# Altium integrated library Resistors.IntLib: 4954 symbols (part 13 of 32)
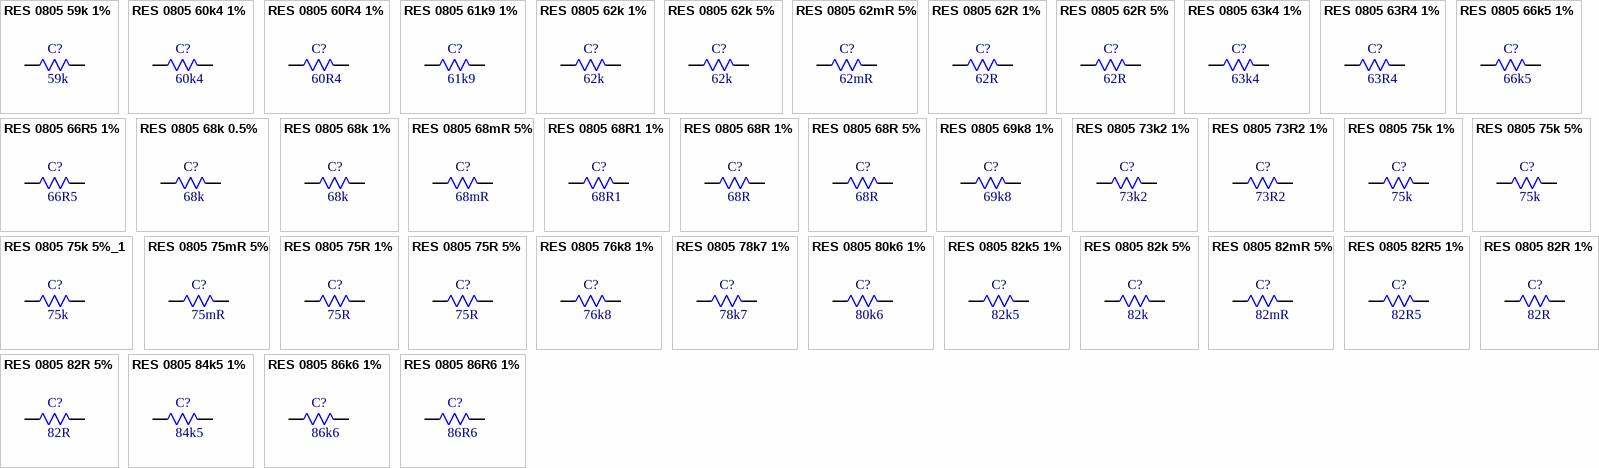
[diagram p135: symbols RES 0805 59k 1% to RES 0805 86R6 1%]

## RES 0805 61k9 1%
designator C?, comment 61k9
61.9kR 1% 125mW 0805 Thick Film Resistor; Manufacturer: FOJAN; Manufacturer Part Number: FRC0805F6192TS; Voltage Rating: 150V; Supplier: LCSC; Supplier Part Number: C2999511; Resistance: 61k9; Tolerance: 1%; Power: 125mW
footprint RES SMD 0805
pins: 1, 2

## RES 0805 62k 1%
designator C?, comment 62k
62kR 1% 125mW 0805 Thick Film Resistor; Manufacturer: FOJAN; Manufacturer Part Number: FRC0805F6202TS; Voltage Rating: 150V; Supplier: LCSC; Supplier Part Number: C2933481; Resistance: 62k; Tolerance: 1%; Power: 125mW
footprint RES SMD 0805
pins: 1, 2

## RES 0805 62k 5%
designator C?, comment 62k
62kR 5% 125mW 0805 Thick Film Resistor; Manufacturer: FOJAN; Manufacturer Part Number: FRC0805J623TS; Voltage Rating: 150V; Supplier: LCSC; Supplier Part Number: C2930305; Resistance: 62k; Tolerance: 5%; Power: 125mW
footprint RES SMD 0805
pins: 1, 2

## RES 0805 62mR 5%
designator C?, comment 62mR
62mR 5% 125mW 0805 Thick Film Resistor; Manufacturer: FOJAN; Manufacturer Part Number: FRL0805JR062TS; Voltage Rating: 300V; Supplier: LCSC; Supplier Part Number: C3000685; Resistance: 62mR; Tolerance: 5%; Power: 125mW
footprint RES SMD 0805
pins: 1, 2

## RES 0805 62R 1%
designator C?, comment 62R
125mW 62R Thick Film Resistor 1% 100ppm/â„ƒ 0805 Chip Resistor - Surface Mount RoHS; Manufacturer: FOJAN; Manufacturer Part Number: FRQ0805F62R0TS; Supplier: LCSC; Supplier Part Number: C7468576; Resistance: 62R; Tolerance: 1%; Power: 125mW
footprint RES SMD 0805
pins: 1, 2

## RES 0805 62R 5%
designator C?, comment 62R
62R 5% 125mW 0805 Thick Film Resistor; Manufacturer: FOJAN; Manufacturer Part Number: FRC0805J620 TS; Voltage Rating: 150V; Supplier: LCSC; Supplier Part Number: C2933559; Resistance: 62R; Tolerance: 5%; Power: 125mW
footprint RES SMD 0805
pins: 1, 2

## RES 0805 63k4 1%
designator C?, comment 63k4
63.4kR 1% 125mW 0805 Thick Film Resistor; Manufacturer: FOJAN; Manufacturer Part Number: FRC0805F6342TS; Voltage Rating: 150V; Supplier: LCSC; Supplier Part Number: C2933483; Resistance: 63k4; Tolerance: 1%; Power: 125mW
footprint RES SMD 0805
pins: 1, 2

## RES 0805 63R4 1%
designator C?, comment 63R4
63.4R 1% 125mW 0805 Thick Film Resistor; Manufacturer: FOJAN; Manufacturer Part Number: FRC0805F63R4TS; Voltage Rating: 150V; Supplier: LCSC; Supplier Part Number: C5159721; Resistance: 63R4; Tolerance: 1%; Power: 125mW
footprint RES SMD 0805
pins: 1, 2

## RES 0805 66k5 1%
designator C?, comment 66k5
66.5kR 1% 125mW 0805 Thick Film Resistor; Manufacturer: FOJAN; Manufacturer Part Number: FRC0805F6652TS; Voltage Rating: 150V; Supplier: LCSC; Supplier Part Number: C3013227; Resistance: 66k5; Tolerance: 1%; Power: 125mW
footprint RES SMD 0805
pins: 1, 2

## RES 0805 66R5 1%
designator C?, comment 66R5
66.5R 1% 125mW 0805 Thick Film Resistor; Manufacturer: FOJAN; Manufacturer Part Number: FRC0805F66R5TS; Voltage Rating: 150V; Supplier: LCSC; Supplier Part Number: C2933486; Resistance: 66R5; Tolerance: 1%; Power: 125mW
footprint RES SMD 0805
pins: 1, 2

## RES 0805 68k 0.5%
designator C?, comment 68k
68kR 0.5% 125mW 0805 Thick Film Resistor; Manufacturer: FOJAN; Manufacturer Part Number: FRH0805D6802TSV; Voltage Rating: 150V; Supplier: LCSC; Supplier Part Number: C2934250; Resistance: 68k; Tolerance: 0.5%; Power: 125mW
footprint RES SMD 0805
pins: 1, 2

## RES 0805 68k 1%
designator C?, comment 68k
68kR 1% 125mW 0805 Thick Film Resistor; Manufacturer: FOJAN; Manufacturer Part Number: FRC0805F6802TS; Voltage Rating: 150V; Supplier: LCSC; Supplier Part Number: C2907283; Resistance: 68k; Tolerance: 1%; Power: 125mW
footprint RES SMD 0805
pins: 1, 2

## RES 0805 68mR 5%
designator C?, comment 68mR
68mR 5% 125mW 0805 Thick Film Resistor; Manufacturer: FOJAN; Manufacturer Part Number: FRL0805JR068TS; Voltage Rating: 300V; Supplier: LCSC; Supplier Part Number: C3000696; Resistance: 68mR; Tolerance: 5%; Power: 125mW
footprint RES SMD 0805
pins: 1, 2

## RES 0805 68R1 1%
designator C?, comment 68R1
68.1R 1% 125mW 0805 Thick Film Resistor; Manufacturer: FOJAN; Manufacturer Part Number: FRC0805F68R1TS; Voltage Rating: 150V; Supplier: LCSC; Supplier Part Number: C2933488; Resistance: 68R1; Tolerance: 1%; Power: 125mW
footprint RES SMD 0805
pins: 1, 2

## RES 0805 68R 1%
designator C?, comment 68R
68R 1% 125mW 0805 Thick Film Resistor; Manufacturer: FOJAN; Manufacturer Part Number: FRC0805F68R0TS; Voltage Rating: 150V; Supplier: LCSC; Supplier Part Number: C2933487; Resistance: 68R; Tolerance: 1%; Power: 125mW
footprint RES SMD 0805
pins: 1, 2

## RES 0805 68R 5%
designator C?, comment 68R
125mW 68R 150V Thick Film Resistor 5% 0805 Chip Resistor - Surface Mount RoHS; Manufacturer: FOJAN; Manufacturer Part Number: FRD0805J680 TS; Supplier: LCSC; Supplier Part Number: C2934182; Resistance: 68R; Tolerance: 5%; Voltage Rating: 150V; Power: 125mW
footprint RES SMD 0805
pins: 1, 2

## RES 0805 69k8 1%
designator C?, comment 69k8
125mW 69.8kR 150V Thick Film Resistor 1% 100ppm/â„ƒ 0805 Chip Resistor - Surface Mount RoHS; Manufacturer: FOJAN; Manufacturer Part Number: FRC0805F6982TS; Supplier: LCSC; Supplier Part Number: C7467441; Resistance: 69k8; Tolerance: 1%; Voltage Rating: 150V; Power: 125mW
footprint RES SMD 0805
pins: 1, 2

## RES 0805 73k2 1%
designator C?, comment 73k2
73.2kR 1% 125mW 0805 Thick Film Resistor; Manufacturer: FOJAN; Manufacturer Part Number: FRC0805F7322TS; Voltage Rating: 150V; Supplier: LCSC; Supplier Part Number: C5713314; Resistance: 73k2; Tolerance: 1%; Power: 125mW
footprint RES SMD 0805
pins: 1, 2

## RES 0805 73R2 1%
designator C?, comment 73R2
73.2R 1% 125mW 0805 Thick Film Resistor; Manufacturer: FOJAN; Manufacturer Part Number: FRC0805F73R2TS; Voltage Rating: 150V; Supplier: LCSC; Supplier Part Number: C3000738; Resistance: 73R2; Tolerance: 1%; Power: 125mW
footprint RES SMD 0805
pins: 1, 2

## RES 0805 75k 1%
designator C?, comment 75k
75kR 1% 125mW 0805 Thick Film Resistor; Manufacturer: FOJAN; Manufacturer Part Number: FRC0805F7502TS; Voltage Rating: 150V; Supplier: LCSC; Supplier Part Number: C2933496; Resistance: 75k; Tolerance: 1%; Power: 125mW
footprint RES SMD 0805
pins: 1, 2

## RES 0805 75k 5%
designator C?, comment 75k
75kR 5% 125mW 0805 Thick Film Resistor; Manufacturer: FOJAN; Manufacturer Part Number: FRC0805J753TS; Voltage Rating: 150V; Supplier: LCSC; Supplier Part Number: C2930313; Resistance: 75k; Tolerance: 5%; Power: 125mW
footprint RES SMD 0805
pins: 1, 2

## RES 0805 75k 5%_1
designator C?, comment 75k
125mW 75kR 150V Thick Film Resistor 100ppm/â„ƒ 5% 0805 Chip Resistor - Surface Mount RoHS; Manufacturer: FOJAN; Manufacturer Part Number: FRQ0805J753 TS; Supplier: LCSC; Supplier Part Number: C49196699; Resistance: 75k; Tolerance: 5%; Voltage Rating: 150V; Power: 125mW
footprint RES SMD 0805
pins: 1, 2

## RES 0805 75mR 5%
designator C?, comment 75mR
75mR 5% 125mW 0805 Thick Film Resistor; Manufacturer: FOJAN; Manufacturer Part Number: FRL0805JR075TS; Voltage Rating: 300V; Supplier: LCSC; Supplier Part Number: C3000563; Resistance: 75mR; Tolerance: 5%; Power: 125mW
footprint RES SMD 0805
pins: 1, 2

## RES 0805 75R 1%
designator C?, comment 75R
75R 1% 125mW 0805 Thick Film Resistor; Manufacturer: FOJAN; Manufacturer Part Number: FRC0805F75R0TS; Voltage Rating: 150V; Supplier: LCSC; Supplier Part Number: C2933498; Resistance: 75R; Tolerance: 1%; Power: 125mW
footprint RES SMD 0805
pins: 1, 2

## RES 0805 75R 5%
designator C?, comment 75R
75R 5% 125mW 0805 Thick Film Resistor; Manufacturer: FOJAN; Manufacturer Part Number: FRC0805J750 TS; Voltage Rating: 150V; Supplier: LCSC; Supplier Part Number: C2974040; Resistance: 75R; Tolerance: 5%; Power: 125mW
footprint RES SMD 0805
pins: 1, 2

## RES 0805 76k8 1%
designator C?, comment 76k8
76.8kR 1% 125mW 0805 Thick Film Resistor; Manufacturer: FOJAN; Manufacturer Part Number: FRC0805F7682TS; Voltage Rating: 150V; Supplier: LCSC; Supplier Part Number: C3000581; Resistance: 76k8; Tolerance: 1%; Power: 125mW
footprint RES SMD 0805
pins: 1, 2

## RES 0805 78k7 1%
designator C?, comment 78k7
78.7kR 1% 125mW 0805 Thick Film Resistor; Manufacturer: FOJAN; Manufacturer Part Number: FRC0805F7872TS; Voltage Rating: 150V; Supplier: LCSC; Supplier Part Number: C2933499; Resistance: 78k7; Tolerance: 1%; Power: 125mW
footprint RES SMD 0805
pins: 1, 2

## RES 0805 80k6 1%
designator C?, comment 80k6
80.6kR 1% 125mW 0805 Thick Film Resistor; Manufacturer: FOJAN; Manufacturer Part Number: FRC0805F8062TS; Voltage Rating: 150V; Supplier: LCSC; Supplier Part Number: C2960781; Resistance: 80k6; Tolerance: 1%; Power: 125mW
footprint RES SMD 0805
pins: 1, 2

## RES 0805 82k5 1%
designator C?, comment 82k5
82.5kR 1% 125mW 0805 Thick Film Resistor; Manufacturer: FOJAN; Manufacturer Part Number: FRC0805F8252TS; Voltage Rating: 150V; Supplier: LCSC; Supplier Part Number: C3013228; Resistance: 82k5; Tolerance: 1%; Power: 125mW
footprint RES SMD 0805
pins: 1, 2

## RES 0805 82k 5%
designator C?, comment 82k
82kR 5% 125mW 0805 Thick Film Resistor; Manufacturer: FOJAN; Manufacturer Part Number: FRC0805J823TS; Voltage Rating: 150V; Supplier: LCSC; Supplier Part Number: C2930316; Resistance: 82k; Tolerance: 5%; Power: 125mW
footprint RES SMD 0805
pins: 1, 2

## RES 0805 82mR 5%
designator C?, comment 82mR
82mR 5% 125mW 0805 Thick Film Resistor; Manufacturer: FOJAN; Manufacturer Part Number: FRL0805JR082TS; Voltage Rating: 300V; Supplier: LCSC; Supplier Part Number: C2960704; Resistance: 82mR; Tolerance: 5%; Power: 125mW
footprint RES SMD 0805
pins: 1, 2

## RES 0805 82R5 1%
designator C?, comment 82R5
82.5R 1% 125mW 0805 Thick Film Resistor; Manufacturer: FOJAN; Manufacturer Part Number: FRC0805F82R5TS; Voltage Rating: 150V; Supplier: LCSC; Supplier Part Number: C2999516; Resistance: 82R5; Tolerance: 1%; Power: 125mW
footprint RES SMD 0805
pins: 1, 2

## RES 0805 82R 1%
designator C?, comment 82R
82R 1% 125mW 0805 Thick Film Resistor; Manufacturer: FOJAN; Manufacturer Part Number: FRC0805F82R0TS; Voltage Rating: 150V; Supplier: LCSC; Supplier Part Number: C2907287; Resistance: 82R; Tolerance: 1%; Power: 125mW
footprint RES SMD 0805
pins: 1, 2

## RES 0805 82R 5%
designator C?, comment 82R
82R 5% 125mW 0805 Thick Film Resistor; Manufacturer: FOJAN; Manufacturer Part Number: FRC0805J820 TS; Voltage Rating: 150V; Supplier: LCSC; Supplier Part Number: C2907344; Resistance: 82R; Tolerance: 5%; Power: 125mW
footprint RES SMD 0805
pins: 1, 2

## RES 0805 84k5 1%
designator C?, comment 84k5
84.5kR 1% 125mW 0805 Thick Film Resistor; Manufacturer: FOJAN; Manufacturer Part Number: FRC0805F8452TS; Voltage Rating: 150V; Supplier: LCSC; Supplier Part Number: C2960703; Resistance: 84k5; Tolerance: 1%; Power: 125mW
footprint RES SMD 0805
pins: 1, 2

## RES 0805 86k6 1%
designator C?, comment 86k6
86.6kR 1% 125mW 0805 Thick Film Resistor; Manufacturer: FOJAN; Manufacturer Part Number: FRC0805F8662TS; Voltage Rating: 150V; Supplier: LCSC; Supplier Part Number: C2933507; Resistance: 86k6; Tolerance: 1%; Power: 125mW
footprint RES SMD 0805
pins: 1, 2

## RES 0805 86R6 1%
designator C?, comment 86R6
86.6R 1% 125mW 0805 Thick Film Resistor; Manufacturer: FOJAN; Manufacturer Part Number: FRC0805F86R6TS; Voltage Rating: 150V; Supplier: LCSC; Supplier Part Number: C5121547; Resistance: 86R6; Tolerance: 1%; Power: 125mW
footprint RES SMD 0805
pins: 1, 2

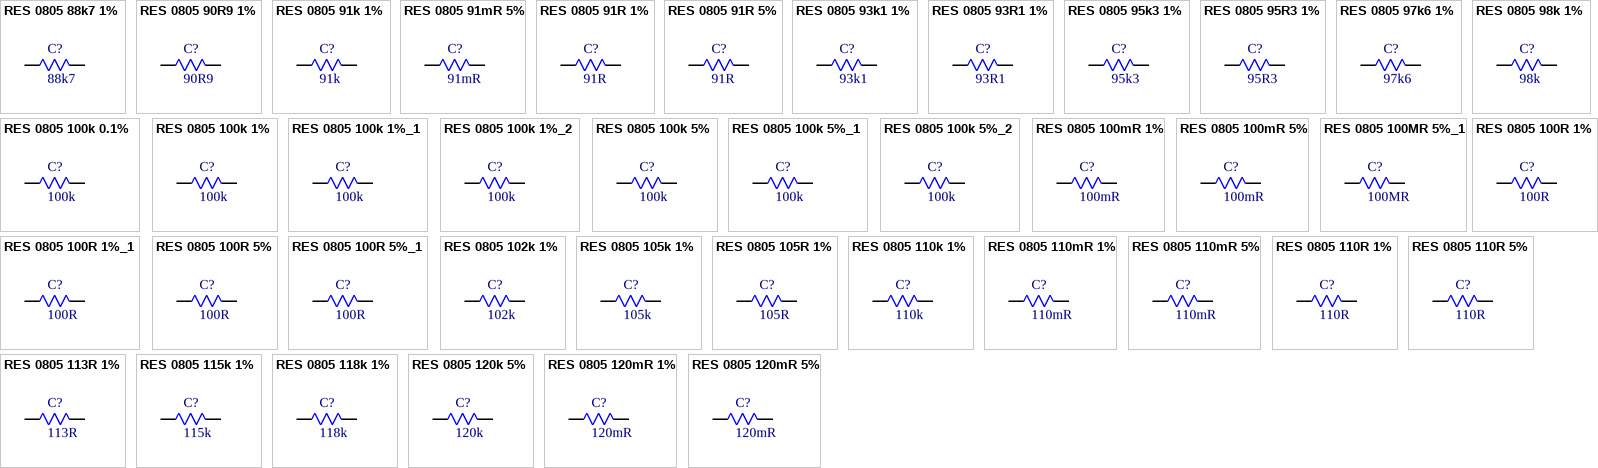
[diagram p49: symbols RES 0805 88k7 1% to RES 0805 120mR 5%]

## RES 0805 88k7 1%
designator C?, comment 88k7
88.7kR 1% 125mW 0805 Thick Film Resistor; Manufacturer: FOJAN; Manufacturer Part Number: FRC0805F8872TS; Voltage Rating: 150V; Supplier: LCSC; Supplier Part Number: C5121549; Resistance: 88k7; Tolerance: 1%; Power: 125mW
footprint RES SMD 0805
pins: 1, 2

## RES 0805 90R9 1%
designator C?, comment 90R9
90.9R 1% 125mW 0805 Thick Film Resistor; Manufacturer: FOJAN; Manufacturer Part Number: FRC0805F90R9TS; Voltage Rating: 150V; Supplier: LCSC; Supplier Part Number: C3000584; Resistance: 90R9; Tolerance: 1%; Power: 125mW
footprint RES SMD 0805
pins: 1, 2

## RES 0805 91k 1%
designator C?, comment 91k
91kR 1% 125mW 0805 Thick Film Resistor; Manufacturer: FOJAN; Manufacturer Part Number: FRC0805F9102TS; Voltage Rating: 150V; Supplier: LCSC; Supplier Part Number: C2933509; Resistance: 91k; Tolerance: 1%; Power: 125mW
footprint RES SMD 0805
pins: 1, 2

## RES 0805 91mR 5%
designator C?, comment 91mR
91mR 5% 125mW 0805 Thick Film Resistor; Manufacturer: FOJAN; Manufacturer Part Number: FRL0805JR091TS; Voltage Rating: 300V; Supplier: LCSC; Supplier Part Number: C3013356; Resistance: 91mR; Tolerance: 5%; Power: 125mW
footprint RES SMD 0805
pins: 1, 2

## RES 0805 91R 1%
designator C?, comment 91R
91R 1% 125mW 0805 Thick Film Resistor; Manufacturer: FOJAN; Manufacturer Part Number: FRC0805F91R0TS; Voltage Rating: 150V; Supplier: LCSC; Supplier Part Number: C2933510; Resistance: 91R; Tolerance: 1%; Power: 125mW
footprint RES SMD 0805
pins: 1, 2

## RES 0805 91R 5%
designator C?, comment 91R
91R 5% 125mW 0805 Thick Film Resistor; Manufacturer: FOJAN; Manufacturer Part Number: FRC0805J910 TS; Voltage Rating: 150V; Supplier: LCSC; Supplier Part Number: C2933573; Resistance: 91R; Tolerance: 5%; Power: 125mW
footprint RES SMD 0805
pins: 1, 2

## RES 0805 93k1 1%
designator C?, comment 93k1
93.1kR 1% 125mW 0805 Thick Film Resistor; Manufacturer: FOJAN; Manufacturer Part Number: FRC0805F9312TS; Voltage Rating: 150V; Supplier: LCSC; Supplier Part Number: C2933511; Resistance: 93k1; Tolerance: 1%; Power: 125mW
footprint RES SMD 0805
pins: 1, 2

## RES 0805 93R1 1%
designator C?, comment 93R1
125mW 93.1R 150V Thick Film Resistor 100ppm/â„ƒ 1% 0805 Chip Resistor - Surface Mount RoHS; Manufacturer: FOJAN; Manufacturer Part Number: FRC0805F93R1TS; Supplier: LCSC; Supplier Part Number: C49196910; Resistance: 93R1; Tolerance: 1%; Voltage Rating: 150V; Power: 125mW
footprint RES SMD 0805
pins: 1, 2

## RES 0805 95k3 1%
designator C?, comment 95k3
95.3kR 1% 125mW 0805 Thick Film Resistor; Manufacturer: FOJAN; Manufacturer Part Number: FRC0805F9532TS; Voltage Rating: 150V; Supplier: LCSC; Supplier Part Number: C2930435; Resistance: 95k3; Tolerance: 1%; Power: 125mW
footprint RES SMD 0805
pins: 1, 2

## RES 0805 95R3 1%
designator C?, comment 95R3
125mW 95.3R 150V Thick Film Resistor 1% 100ppm/â„ƒ 0805 Chip Resistor - Surface Mount RoHS; Manufacturer: FOJAN; Manufacturer Part Number: FRC0805F95R3TS; Supplier: LCSC; Supplier Part Number: C7467332; Resistance: 95R3; Tolerance: 1%; Voltage Rating: 150V; Power: 125mW
footprint RES SMD 0805
pins: 1, 2

## RES 0805 97k6 1%
designator C?, comment 97k6
97.6kR 1% 125mW 0805 Thick Film Resistor; Manufacturer: FOJAN; Manufacturer Part Number: FRC0805F9762TS; Voltage Rating: 150V; Supplier: LCSC; Supplier Part Number: C2933513; Resistance: 97k6; Tolerance: 1%; Power: 125mW
footprint RES SMD 0805
pins: 1, 2

## RES 0805 98k 1%
designator C?, comment 98k
98kR 1% 125mW 0805 Thick Film Resistor; Manufacturer: FOJAN; Manufacturer Part Number: FRC0805F9802TS; Voltage Rating: 150V; Supplier: LCSC; Supplier Part Number: C2933514; Resistance: 98k; Tolerance: 1%; Power: 125mW
footprint RES SMD 0805
pins: 1, 2

## RES 0805 100k 0.1%
designator C?, comment 100k
100kR 0.1% 125mW 0805 Thick Film Resistor; Manufacturer: FOJAN; Manufacturer Part Number: FRH0805B1003TS; Voltage Rating: 150V; Supplier: LCSC; Supplier Part Number: C5713386; Resistance: 100k; Tolerance: 0.1%; Power: 125mW
footprint RES SMD 0805
pins: 1, 2

## RES 0805 100k 1%
designator C?, comment 100k
100kR 1% 125mW 0805 Thick Film Resistor; Manufacturer: FOJAN; Manufacturer Part Number: FRC0805F1003TS; Voltage Rating: 150V; Supplier: LCSC; Supplier Part Number: C2907217; Resistance: 100k; Tolerance: 1%; Power: 125mW
footprint RES SMD 0805
pins: 1, 2

## RES 0805 100k 1%_1
designator C?, comment 100k
125mW 100kR 150V Thick Film Resistor 1% 0805 Chip Resistor - Surface Mount RoHS; Manufacturer: FOJAN; Manufacturer Part Number: FRR0805F1003TS; Supplier: LCSC; Supplier Part Number: C51048204; Resistance: 100k; Tolerance: 1%; Voltage Rating: 150V; Power: 125mW
footprint RES SMD 0805
pins: 1, 2

## RES 0805 100k 1%_2
designator C?, comment 100k
125mW 100kR 150V Thick Film Resistor 100ppm/â„ƒ 1% 0805 Chip Resistor - Surface Mount RoHS; Manufacturer: FOJAN; Manufacturer Part Number: FRQ0805F1003TS; Supplier: LCSC; Supplier Part Number: C18222266; Resistance: 100k; Tolerance: 1%; Voltage Rating: 150V; Power: 125mW
footprint RES SMD 0805
pins: 1, 2

## RES 0805 100k 5%
designator C?, comment 100k
100kR 5% 125mW 0805 Thick Film Resistor; Manufacturer: FOJAN; Manufacturer Part Number: FRC0805J104 TS; Voltage Rating: 150V; Supplier: LCSC; Supplier Part Number: C2907293; Resistance: 100k; Tolerance: 5%; Power: 125mW
footprint RES SMD 0805
pins: 1, 2

## RES 0805 100k 5%_1
designator C?, comment 100k
125mW 100kR 150V Thick Film Resistor 100ppm/â„ƒ 5% 0805 Chip Resistor - Surface Mount RoHS; Manufacturer: FOJAN; Manufacturer Part Number: FRR0805J104 TS; Supplier: LCSC; Supplier Part Number: C49196825; Resistance: 100k; Tolerance: 5%; Voltage Rating: 150V; Power: 125mW
footprint RES SMD 0805
pins: 1, 2

## RES 0805 100k 5%_2
designator C?, comment 100k
125mW 100kR 150V Thick Film Resistor 100ppm/â„ƒ 5% 0805 Chip Resistor - Surface Mount RoHS; Manufacturer: FOJAN; Manufacturer Part Number: FRQ0805J104 TS; Supplier: LCSC; Supplier Part Number: C18222278; Resistance: 100k; Tolerance: 5%; Voltage Rating: 150V; Power: 125mW
footprint RES SMD 0805
pins: 1, 2

## RES 0805 100mR 1%
designator C?, comment 100mR
100mR 1% 125mW 0805 Thick Film Resistor; Manufacturer: FOJAN; Manufacturer Part Number: FRL0805FR100TS; Voltage Rating: 300V; Supplier: LCSC; Supplier Part Number: C2934258; Resistance: 100mR; Tolerance: 1%; Power: 125mW
footprint RES SMD 0805
pins: 1, 2

## RES 0805 100mR 5%
designator C?, comment 100mR
100mR 5% 125mW 0805 Thick Film Resistor; Manufacturer: FOJAN; Manufacturer Part Number: FRL0805JR100TS; Voltage Rating: 300V; Supplier: LCSC; Supplier Part Number: C2930323; Resistance: 100mR; Tolerance: 5%; Power: 125mW
footprint RES SMD 0805
pins: 1, 2

## RES 0805 100MR 5%_1
designator C?, comment 100MR
125mW 100MR 150V Thick Film Resistor 5% 200ppm/â„ƒ 0805 Chip Resistor - Surface Mount RoHS; Manufacturer: FOJAN; Manufacturer Part Number: FRG0805J107 TS; Supplier: LCSC; Supplier Part Number: C49196916; Resistance: 100MR; Tolerance: 5%; Voltage Rating: 150V; Power: 125mW
footprint RES SMD 0805
pins: 1, 2

## RES 0805 100R 1%
designator C?, comment 100R
100R 1% 125mW 0805 Thick Film Resistor; Manufacturer: FOJAN; Manufacturer Part Number: FRC0805F1000TS; Voltage Rating: 150V; Supplier: LCSC; Supplier Part Number: C2907218; Resistance: 100R; Tolerance: 1%; Power: 125mW
footprint RES SMD 0805
pins: 1, 2

## RES 0805 100R 1%_1
designator C?, comment 100R
125mW 100R 150V Thick Film Resistor 1% 100ppm/â„ƒ 0805 Chip Resistor - Surface Mount RoHS; Manufacturer: FOJAN; Manufacturer Part Number: FRQ0805F1000TS; Supplier: LCSC; Supplier Part Number: C7468571; Resistance: 100R; Tolerance: 1%; Voltage Rating: 150V; Power: 125mW
footprint RES SMD 0805
pins: 1, 2

## RES 0805 100R 5%
designator C?, comment 100R
100R 5% 125mW 0805 Thick Film Resistor; Manufacturer: FOJAN; Manufacturer Part Number: FRD0805J101 TS; Voltage Rating: 150V; Supplier: LCSC; Supplier Part Number: C2934136; Resistance: 100R; Tolerance: 5%; Power: 125mW
footprint RES SMD 0805
pins: 1, 2

## RES 0805 100R 5%_1
designator C?, comment 100R
125mW 100R 150V Thick Film Resistor 5% 0805 Chip Resistor - Surface Mount RoHS; Manufacturer: FOJAN; Manufacturer Part Number: FRR0805J101 TS; Supplier: LCSC; Supplier Part Number: C51048203; Resistance: 100R; Tolerance: 5%; Voltage Rating: 150V; Power: 125mW
footprint RES SMD 0805
pins: 1, 2

## RES 0805 102k 1%
designator C?, comment 102k
102kR 1% 125mW 0805 Thick Film Resistor; Manufacturer: FOJAN; Manufacturer Part Number: FRC0805F1023TS; Voltage Rating: 150V; Supplier: LCSC; Supplier Part Number: C2999517; Resistance: 102k; Tolerance: 1%; Power: 125mW
footprint RES SMD 0805
pins: 1, 2

## RES 0805 105k 1%
designator C?, comment 105k
105kR 1% 125mW 0805 Thick Film Resistor; Manufacturer: FOJAN; Manufacturer Part Number: FRC0805F1053TS; Voltage Rating: 150V; Supplier: LCSC; Supplier Part Number: C3000727; Resistance: 105k; Tolerance: 1%; Power: 125mW
footprint RES SMD 0805
pins: 1, 2

## RES 0805 105R 1%
designator C?, comment 105R
105R 1% 125mW 0805 Thick Film Resistor; Manufacturer: FOJAN; Manufacturer Part Number: FRC0805F1050TS; Voltage Rating: 150V; Supplier: LCSC; Supplier Part Number: C2999463; Resistance: 105R; Tolerance: 1%; Power: 125mW
footprint RES SMD 0805
pins: 1, 2

## RES 0805 110k 1%
designator C?, comment 110k
110kR 1% 125mW 0805 Thick Film Resistor; Manufacturer: FOJAN; Manufacturer Part Number: FRC0805F1103TS; Voltage Rating: 150V; Supplier: LCSC; Supplier Part Number: C2907221; Resistance: 110k; Tolerance: 1%; Power: 125mW
footprint RES SMD 0805
pins: 1, 2

## RES 0805 110mR 1%
designator C?, comment 110mR
110mR 1% 125mW 0805 Thick Film Resistor; Manufacturer: FOJAN; Manufacturer Part Number: FRL0805FR110TS; Voltage Rating: 300V; Supplier: LCSC; Supplier Part Number: C5126077; Resistance: 110mR; Tolerance: 1%; Power: 125mW
footprint RES SMD 0805
pins: 1, 2

## RES 0805 110mR 5%
designator C?, comment 110mR
125mW 110mR Thick Film Resistor 5% 600ppm/â„ƒ 0805 Chip Resistor - Surface Mount RoHS; Manufacturer: FOJAN; Manufacturer Part Number: FRL0805JR110TS; Supplier: LCSC; Supplier Part Number: C7467750; Resistance: 110mR; Tolerance: 5%; Power: 125mW
footprint RES SMD 0805
pins: 1, 2

## RES 0805 110R 1%
designator C?, comment 110R
110R 1% 125mW 0805 Thick Film Resistor; Manufacturer: FOJAN; Manufacturer Part Number: FRC0805F1100TS; Voltage Rating: 150V; Supplier: LCSC; Supplier Part Number: C2930165; Resistance: 110R; Tolerance: 1%; Power: 125mW
footprint RES SMD 0805
pins: 1, 2

## RES 0805 110R 5%
designator C?, comment 110R
110R 5% 125mW 0805 Thick Film Resistor; Manufacturer: FOJAN; Manufacturer Part Number: FRC0805J111 TS; Voltage Rating: 150V; Supplier: LCSC; Supplier Part Number: C2933517; Resistance: 110R; Tolerance: 5%; Power: 125mW
footprint RES SMD 0805
pins: 1, 2

## RES 0805 113R 1%
designator C?, comment 113R
113R 125mW 150V Thick Film Resistor 1% 0805 Chip Resistor - Surface Mount RoHS; Manufacturer: FOJAN; Manufacturer Part Number: FRC0805F1130TS; Supplier: LCSC; Supplier Part Number: C52033520; Resistance: 113R; Tolerance: 1%; Voltage Rating: 150V; Power: 125mW
footprint RES SMD 0805
pins: 1, 2

## RES 0805 115k 1%
designator C?, comment 115k
115kR 1% 125mW 0805 Thick Film Resistor; Manufacturer: FOJAN; Manufacturer Part Number: FRC0805F1153TS; Voltage Rating: 150V; Supplier: LCSC; Supplier Part Number: C2933289; Resistance: 115k; Tolerance: 1%; Power: 125mW
footprint RES SMD 0805
pins: 1, 2

## RES 0805 118k 1%
designator C?, comment 118k
118kR 1% 125mW 0805 Thick Film Resistor; Manufacturer: FOJAN; Manufacturer Part Number: FRC0805F1183TS; Voltage Rating: 150V; Supplier: LCSC; Supplier Part Number: C2999465; Resistance: 118k; Tolerance: 1%; Power: 125mW
footprint RES SMD 0805
pins: 1, 2

## RES 0805 120k 5%
designator C?, comment 120k
120kR 5% 125mW 0805 Thick Film Resistor; Manufacturer: FOJAN; Manufacturer Part Number: FRC0805J124 TS; Voltage Rating: 150V; Supplier: LCSC; Supplier Part Number: C2907297; Resistance: 120k; Tolerance: 5%; Power: 125mW
footprint RES SMD 0805
pins: 1, 2

## RES 0805 120mR 1%
designator C?, comment 120mR
120mR 1% 125mW 0805 Thick Film Resistor; Manufacturer: FOJAN; Manufacturer Part Number: FRL0805FR120TS; Voltage Rating: 300V; Supplier: LCSC; Supplier Part Number: C2930214; Resistance: 120mR; Tolerance: 1%; Power: 125mW
footprint RES SMD 0805
pins: 1, 2

## RES 0805 120mR 5%
designator C?, comment 120mR
120mR 5% 125mW 0805 Thick Film Resistor; Manufacturer: FOJAN; Manufacturer Part Number: FRL0805JR120TS; Voltage Rating: 300V; Supplier: LCSC; Supplier Part Number: C2934272; Resistance: 120mR; Tolerance: 5%; Power: 125mW
footprint RES SMD 0805
pins: 1, 2

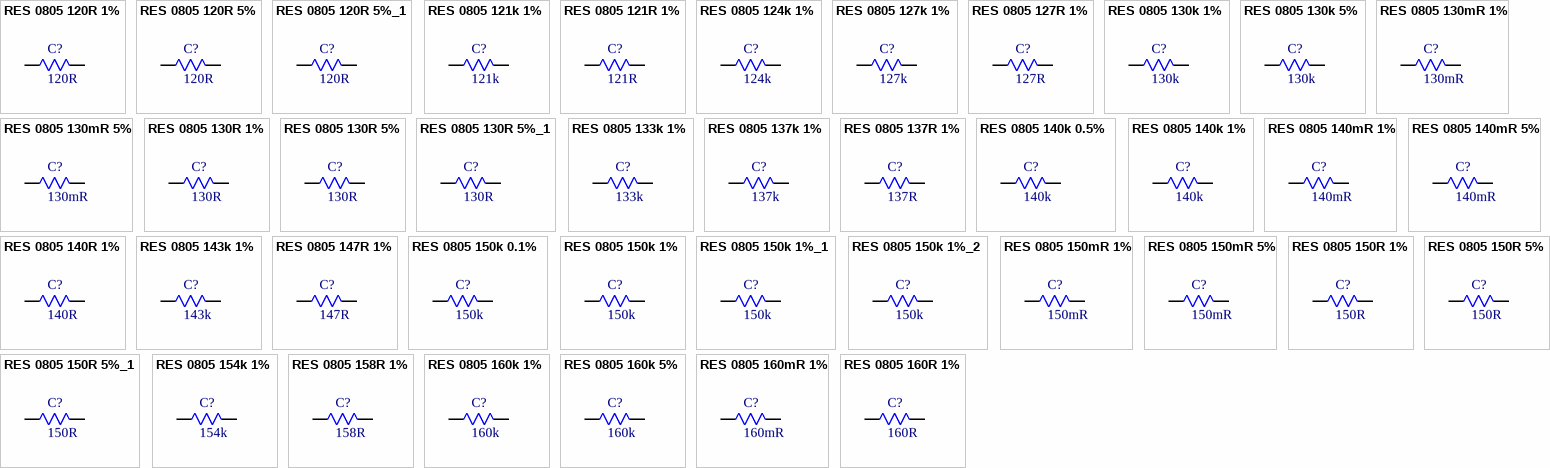
[diagram p50: symbols RES 0805 120R 1% to RES 0805 160R 1%]

## RES 0805 120R 1%
designator C?, comment 120R
120R 1% 125mW 0805 Thick Film Resistor; Manufacturer: FOJAN; Manufacturer Part Number: FRC0805F1200TS; Voltage Rating: 150V; Supplier: LCSC; Supplier Part Number: C2907224; Resistance: 120R; Tolerance: 1%; Power: 125mW
footprint RES SMD 0805
pins: 1, 2

## RES 0805 120R 5%
designator C?, comment 120R
120R 5% 125mW 0805 Thick Film Resistor; Manufacturer: FOJAN; Manufacturer Part Number: FRC0805J121 TS; Voltage Rating: 150V; Supplier: LCSC; Supplier Part Number: C3013232; Resistance: 120R; Tolerance: 5%; Power: 125mW
footprint RES SMD 0805
pins: 1, 2

## RES 0805 120R 5%_1
designator C?, comment 120R
120R 5% 125mW 0805 Thick Film Resistor; Manufacturer: FOJAN; Manufacturer Part Number: FRD0805J121 TS; Voltage Rating: 150V; Supplier: LCSC; Supplier Part Number: C2934142; Resistance: 120R; Tolerance: 5%; Power: 125mW
footprint RES SMD 0805
pins: 1, 2

## RES 0805 121k 1%
designator C?, comment 121k
121kR 1% 125mW 0805 Thick Film Resistor; Manufacturer: FOJAN; Manufacturer Part Number: FRC0805F1213TS; Voltage Rating: 150V; Supplier: LCSC; Supplier Part Number: C2933296; Resistance: 121k; Tolerance: 1%; Power: 125mW
footprint RES SMD 0805
pins: 1, 2

## RES 0805 121R 1%
designator C?, comment 121R
121R 1% 125mW 0805 Thick Film Resistor; Manufacturer: FOJAN; Manufacturer Part Number: FRC0805F1210TS; Voltage Rating: 150V; Supplier: LCSC; Supplier Part Number: C3013210; Resistance: 121R; Tolerance: 1%; Power: 125mW
footprint RES SMD 0805
pins: 1, 2

## RES 0805 124k 1%
designator C?, comment 124k
124kR 1% 125mW 0805 Thick Film Resistor; Manufacturer: FOJAN; Manufacturer Part Number: FRC0805F1243TS; Voltage Rating: 150V; Supplier: LCSC; Supplier Part Number: C2933298; Resistance: 124k; Tolerance: 1%; Power: 125mW
footprint RES SMD 0805
pins: 1, 2

## RES 0805 127k 1%
designator C?, comment 127k
127kR 1% 125mW 0805 Thick Film Resistor; Manufacturer: FOJAN; Manufacturer Part Number: FRC0805F1273TS; Voltage Rating: 150V; Supplier: LCSC; Supplier Part Number: C2974033; Resistance: 127k; Tolerance: 1%; Power: 125mW
footprint RES SMD 0805
pins: 1, 2

## RES 0805 127R 1%
designator C?, comment 127R
127R 1% 125mW 0805 Thick Film Resistor; Manufacturer: FOJAN; Manufacturer Part Number: FRC0805F1270TS; Voltage Rating: 150V; Supplier: LCSC; Supplier Part Number: C5159710; Resistance: 127R; Tolerance: 1%; Power: 125mW
footprint RES SMD 0805
pins: 1, 2

## RES 0805 130k 1%
designator C?, comment 130k
130kR 1% 125mW 0805 Thick Film Resistor; Manufacturer: FOJAN; Manufacturer Part Number: FRC0805F1303TS; Voltage Rating: 150V; Supplier: LCSC; Supplier Part Number: C2933305; Resistance: 130k; Tolerance: 1%; Power: 125mW
footprint RES SMD 0805
pins: 1, 2

## RES 0805 130k 5%
designator C?, comment 130k
130kR 5% 125mW 0805 Thick Film Resistor; Manufacturer: FOJAN; Manufacturer Part Number: FRC0805J134 TS; Voltage Rating: 150V; Supplier: LCSC; Supplier Part Number: C2933525; Resistance: 130k; Tolerance: 5%; Power: 125mW
footprint RES SMD 0805
pins: 1, 2

## RES 0805 130mR 1%
designator C?, comment 130mR
130mR 1% 125mW 0805 Thick Film Resistor; Manufacturer: FOJAN; Manufacturer Part Number: FRL0805FR130TS; Voltage Rating: 300V; Supplier: LCSC; Supplier Part Number: C2930215; Resistance: 130mR; Tolerance: 1%; Power: 125mW
footprint RES SMD 0805
pins: 1, 2

## RES 0805 130mR 5%
designator C?, comment 130mR
130mR 5% 125mW 0805 Thick Film Resistor; Manufacturer: FOJAN; Manufacturer Part Number: FRL0805JR130TS; Voltage Rating: 300V; Supplier: LCSC; Supplier Part Number: C2934273; Resistance: 130mR; Tolerance: 5%; Power: 125mW
footprint RES SMD 0805
pins: 1, 2

## RES 0805 130R 1%
designator C?, comment 130R
130R 1% 125mW 0805 Thick Film Resistor; Manufacturer: FOJAN; Manufacturer Part Number: FRC0805F1300TS; Voltage Rating: 150V; Supplier: LCSC; Supplier Part Number: C2907227; Resistance: 130R; Tolerance: 1%; Power: 125mW
footprint RES SMD 0805
pins: 1, 2

## RES 0805 130R 5%
designator C?, comment 130R
125mW 130R 150V Thick Film Resistor 100ppm/â„ƒ 5% 0805 Chip Resistor - Surface Mount RoHS; Manufacturer: FOJAN; Manufacturer Part Number: FRQ0805J131 TS; Supplier: LCSC; Supplier Part Number: C18222260; Resistance: 130R; Tolerance: 5%; Voltage Rating: 150V; Power: 125mW
footprint RES SMD 0805
pins: 1, 2

## RES 0805 130R 5%_1
designator C?, comment 130R
130R 5% 125mW 0805 Thick Film Resistor; Manufacturer: FOJAN; Manufacturer Part Number: FRC0805J131 TS; Voltage Rating: 150V; Supplier: LCSC; Supplier Part Number: C2933523; Resistance: 130R; Tolerance: 5%; Power: 125mW
footprint RES SMD 0805
pins: 1, 2

## RES 0805 133k 1%
designator C?, comment 133k
133kR 1% 125mW 0805 Thick Film Resistor; Manufacturer: FOJAN; Manufacturer Part Number: FRC0805F1333TS; Voltage Rating: 150V; Supplier: LCSC; Supplier Part Number: C2933307; Resistance: 133k; Tolerance: 1%; Power: 125mW
footprint RES SMD 0805
pins: 1, 2

## RES 0805 137k 1%
designator C?, comment 137k
137kR 1% 125mW 0805 Thick Film Resistor; Manufacturer: FOJAN; Manufacturer Part Number: FRC0805F1373TS; Voltage Rating: 150V; Supplier: LCSC; Supplier Part Number: C2933311; Resistance: 137k; Tolerance: 1%; Power: 125mW
footprint RES SMD 0805
pins: 1, 2

## RES 0805 137R 1%
designator C?, comment 137R
137R 1% 125mW 0805 Thick Film Resistor; Manufacturer: FOJAN; Manufacturer Part Number: FRC0805F1370TS; Voltage Rating: 150V; Supplier: LCSC; Supplier Part Number: C2933309; Resistance: 137R; Tolerance: 1%; Power: 125mW
footprint RES SMD 0805
pins: 1, 2

## RES 0805 140k 0.5%
designator C?, comment 140k
140kR 0.5% 125mW 0805 Thick Film Resistor; Manufacturer: FOJAN; Manufacturer Part Number: FRH0805D1403TSV; Voltage Rating: 150V; Supplier: LCSC; Supplier Part Number: C2934249; Resistance: 140k; Tolerance: 0.5%; Power: 125mW
footprint RES SMD 0805
pins: 1, 2

## RES 0805 140k 1%
designator C?, comment 140k
140kR 1% 125mW 0805 Thick Film Resistor; Manufacturer: FOJAN; Manufacturer Part Number: FRC0805F1403TS; Voltage Rating: 150V; Supplier: LCSC; Supplier Part Number: C2933315; Resistance: 140k; Tolerance: 1%; Power: 125mW
footprint RES SMD 0805
pins: 1, 2

## RES 0805 140mR 1%
designator C?, comment 140mR
140mR 1% 125mW 0805 Thick Film Resistor; Manufacturer: FOJAN; Manufacturer Part Number: FRL0805FR140TS; Voltage Rating: 300V; Supplier: LCSC; Supplier Part Number: C2934259; Resistance: 140mR; Tolerance: 1%; Power: 125mW
footprint RES SMD 0805
pins: 1, 2

## RES 0805 140mR 5%
designator C?, comment 140mR
140mR 5% 125mW 0805 Thick Film Resistor; Manufacturer: FOJAN; Manufacturer Part Number: FRL0805JR140TS; Voltage Rating: 300V; Supplier: LCSC; Supplier Part Number: C3013357; Resistance: 140mR; Tolerance: 5%; Power: 125mW
footprint RES SMD 0805
pins: 1, 2

## RES 0805 140R 1%
designator C?, comment 140R
140R 1% 125mW 0805 Thick Film Resistor; Manufacturer: FOJAN; Manufacturer Part Number: FRC0805F1400TS; Voltage Rating: 150V; Supplier: LCSC; Supplier Part Number: C2930166; Resistance: 140R; Tolerance: 1%; Power: 125mW
footprint RES SMD 0805
pins: 1, 2

## RES 0805 143k 1%
designator C?, comment 143k
143kR 1% 125mW 0805 Thick Film Resistor; Manufacturer: FOJAN; Manufacturer Part Number: FRC0805F1433TS; Voltage Rating: 150V; Supplier: LCSC; Supplier Part Number: C2930167; Resistance: 143k; Tolerance: 1%; Power: 125mW
footprint RES SMD 0805
pins: 1, 2

## RES 0805 147R 1%
designator C?, comment 147R
147R 1% 125mW 0805 Thick Film Resistor; Manufacturer: FOJAN; Manufacturer Part Number: FRC0805F1470TS; Voltage Rating: 150V; Supplier: LCSC; Supplier Part Number: C2933318; Resistance: 147R; Tolerance: 1%; Power: 125mW
footprint RES SMD 0805
pins: 1, 2

## RES 0805 150k 0.1%
designator C?, comment 150k
150kR 0.1% 125mW 0805 Thick Film Resistor; Manufacturer: FOJAN; Manufacturer Part Number: FRH0805B1503TS; Voltage Rating: 150V; Supplier: LCSC; Supplier Part Number: C5204040; Resistance: 150k; Tolerance: 0.1%; Power: 125mW
footprint RES SMD 0805
pins: 1, 2

## RES 0805 150k 1%
designator C?, comment 150k
150kR 1% 125mW 0805 Thick Film Resistor; Manufacturer: FOJAN; Manufacturer Part Number: FRC0805F1503TS; Voltage Rating: 150V; Supplier: LCSC; Supplier Part Number: C2907228; Resistance: 150k; Tolerance: 1%; Power: 125mW
footprint RES SMD 0805
pins: 1, 2

## RES 0805 150k 1%_1
designator C?, comment 150k
125mW 150kR Thick Film Resistor 100ppm/â„ƒ 1% 0805 Chip Resistor - Surface Mount RoHS; Manufacturer: FOJAN; Manufacturer Part Number: FRV0805F1503TS; Supplier: LCSC; Supplier Part Number: C42372227; Resistance: 150k; Tolerance: 1%; Power: 125mW
footprint RES SMD 0805
pins: 1, 2

## RES 0805 150k 1%_2
designator C?, comment 150k
125mW 150kR Thick Film Resistor 1% 100ppm/â„ƒ 0805 Chip Resistor - Surface Mount RoHS; Manufacturer: FOJAN; Manufacturer Part Number: FRQ0805F1503TS; Supplier: LCSC; Supplier Part Number: C7468545; Resistance: 150k; Tolerance: 1%; Power: 125mW
footprint RES SMD 0805
pins: 1, 2

## RES 0805 150mR 1%
designator C?, comment 150mR
150mR 1% 125mW 0805 Thick Film Resistor; Manufacturer: FOJAN; Manufacturer Part Number: FRL0805FR150TS; Voltage Rating: 300V; Supplier: LCSC; Supplier Part Number: C2934260; Resistance: 150mR; Tolerance: 1%; Power: 125mW
footprint RES SMD 0805
pins: 1, 2

## RES 0805 150mR 5%
designator C?, comment 150mR
150mR 5% 125mW 0805 Thick Film Resistor; Manufacturer: FOJAN; Manufacturer Part Number: FRL0805JR150TS; Voltage Rating: 300V; Supplier: LCSC; Supplier Part Number: C2934274; Resistance: 150mR; Tolerance: 5%; Power: 125mW
footprint RES SMD 0805
pins: 1, 2

## RES 0805 150R 1%
designator C?, comment 150R
150R 1% 125mW 0805 Thick Film Resistor; Manufacturer: FOJAN; Manufacturer Part Number: FRC0805F1500TS; Voltage Rating: 150V; Supplier: LCSC; Supplier Part Number: C2933324; Resistance: 150R; Tolerance: 1%; Power: 125mW
footprint RES SMD 0805
pins: 1, 2

## RES 0805 150R 5%
designator C?, comment 150R
150R 5% 125mW 0805 Thick Film Resistor; Manufacturer: FOJAN; Manufacturer Part Number: FRC0805J151 TS; Voltage Rating: 150V; Supplier: LCSC; Supplier Part Number: C2907300; Resistance: 150R; Tolerance: 5%; Power: 125mW
footprint RES SMD 0805
pins: 1, 2

## RES 0805 150R 5%_1
designator C?, comment 150R
150R 5% 125mW 0805 Thick Film Resistor; Manufacturer: FOJAN; Manufacturer Part Number: FRD0805J151TS; Voltage Rating: 150V; Supplier: LCSC; Supplier Part Number: C2930244; Resistance: 150R; Tolerance: 5%; Power: 125mW
footprint RES SMD 0805
pins: 1, 2

## RES 0805 154k 1%
designator C?, comment 154k
154kR 1% 125mW 0805 Thick Film Resistor; Manufacturer: FOJAN; Manufacturer Part Number: FRC0805F1543TS; Voltage Rating: 150V; Supplier: LCSC; Supplier Part Number: C2999462; Resistance: 154k; Tolerance: 1%; Power: 125mW
footprint RES SMD 0805
pins: 1, 2

## RES 0805 158R 1%
designator C?, comment 158R
158R 1% 125mW 0805 Thick Film Resistor; Manufacturer: FOJAN; Manufacturer Part Number: FRC0805F1580TS; Voltage Rating: 150V; Supplier: LCSC; Supplier Part Number: C5121529; Resistance: 158R; Tolerance: 1%; Power: 125mW
footprint RES SMD 0805
pins: 1, 2

## RES 0805 160k 1%
designator C?, comment 160k
160kR 1% 125mW 0805 Thick Film Resistor; Manufacturer: FOJAN; Manufacturer Part Number: FRC0805F1603TS; Voltage Rating: 150V; Supplier: LCSC; Supplier Part Number: C2960745; Resistance: 160k; Tolerance: 1%; Power: 125mW
footprint RES SMD 0805
pins: 1, 2

## RES 0805 160k 5%
designator C?, comment 160k
160kR 5% 125mW 0805 Thick Film Resistor; Manufacturer: FOJAN; Manufacturer Part Number: FRC0805J164 TS; Voltage Rating: 150V; Supplier: LCSC; Supplier Part Number: C2933530; Resistance: 160k; Tolerance: 5%; Power: 125mW
footprint RES SMD 0805
pins: 1, 2

## RES 0805 160mR 1%
designator C?, comment 160mR
160mR 1% 125mW 0805 Thick Film Resistor; Manufacturer: FOJAN; Manufacturer Part Number: FRL0805FR160TS; Voltage Rating: 300V; Supplier: LCSC; Supplier Part Number: C2934261; Resistance: 160mR; Tolerance: 1%; Power: 125mW
footprint RES SMD 0805
pins: 1, 2

## RES 0805 160R 1%
designator C?, comment 160R
160R 1% 125mW 0805 Thick Film Resistor; Manufacturer: FOJAN; Manufacturer Part Number: FRC0805F1600TS; Voltage Rating: 150V; Supplier: LCSC; Supplier Part Number: C2960793; Resistance: 160R; Tolerance: 1%; Power: 125mW
footprint RES SMD 0805
pins: 1, 2

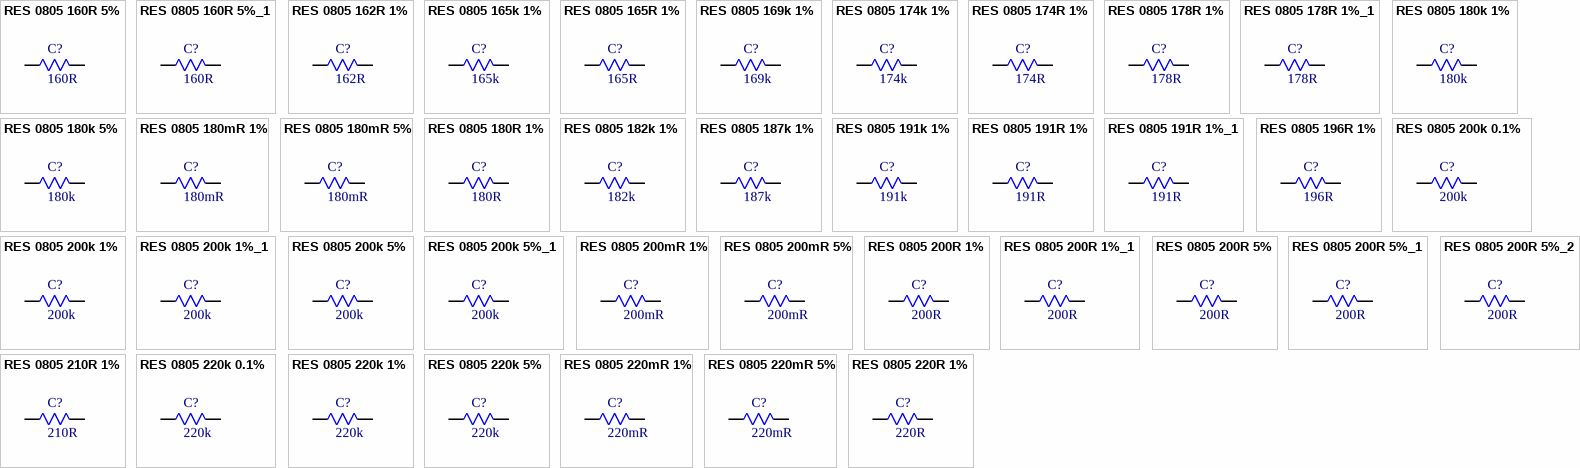
[diagram p51: symbols RES 0805 160R 5% to RES 0805 220R 1%]

## RES 0805 160R 5%
designator C?, comment 160R
160R 5% 125mW 0805 Thick Film Resistor; Manufacturer: FOJAN; Manufacturer Part Number: FRC0805J161 TS; Voltage Rating: 150V; Supplier: LCSC; Supplier Part Number: C5357135; Resistance: 160R; Tolerance: 5%; Power: 125mW
footprint RES SMD 0805
pins: 1, 2

## RES 0805 160R 5%_1
designator C?, comment 160R
160R 5% 125mW 0805 Thick Film Resistor; Manufacturer: FOJAN; Manufacturer Part Number: FRC0805J161TSD; Voltage Rating: 150V; Supplier: LCSC; Supplier Part Number: C2930247; Resistance: 160R; Tolerance: 5%; Power: 125mW
footprint RES SMD 0805
pins: 1, 2

## RES 0805 162R 1%
designator C?, comment 162R
162R 1% 125mW 0805 Thick Film Resistor; Manufacturer: FOJAN; Manufacturer Part Number: FRC0805F1620TS; Voltage Rating: 150V; Supplier: LCSC; Supplier Part Number: C2933330; Resistance: 162R; Tolerance: 1%; Power: 125mW
footprint RES SMD 0805
pins: 1, 2

## RES 0805 165k 1%
designator C?, comment 165k
165kR 1% 125mW 0805 Thick Film Resistor; Manufacturer: FOJAN; Manufacturer Part Number: FRC0805F1653TS; Voltage Rating: 150V; Supplier: LCSC; Supplier Part Number: C2933335; Resistance: 165k; Tolerance: 1%; Power: 125mW
footprint RES SMD 0805
pins: 1, 2

## RES 0805 165R 1%
designator C?, comment 165R
165R 1% 125mW 0805 Thick Film Resistor; Manufacturer: FOJAN; Manufacturer Part Number: FRC0805F1650TS; Voltage Rating: 150V; Supplier: LCSC; Supplier Part Number: C2933333; Resistance: 165R; Tolerance: 1%; Power: 125mW
footprint RES SMD 0805
pins: 1, 2

## RES 0805 169k 1%
designator C?, comment 169k
169kR 1% 125mW 0805 Thick Film Resistor; Manufacturer: FOJAN; Manufacturer Part Number: FRC0805F1693TS; Voltage Rating: 150V; Supplier: LCSC; Supplier Part Number: C2933337; Resistance: 169k; Tolerance: 1%; Power: 125mW
footprint RES SMD 0805
pins: 1, 2

## RES 0805 174k 1%
designator C?, comment 174k
174kR 1% 125mW 0805 Thick Film Resistor; Manufacturer: FOJAN; Manufacturer Part Number: FRC0805F1743TS; Voltage Rating: 150V; Supplier: LCSC; Supplier Part Number: C5159712; Resistance: 174k; Tolerance: 1%; Power: 125mW
footprint RES SMD 0805
pins: 1, 2

## RES 0805 174R 1%
designator C?, comment 174R
174R 1% 125mW 0805 Thick Film Resistor; Manufacturer: FOJAN; Manufacturer Part Number: FRC0805F1740TS; Voltage Rating: 150V; Supplier: LCSC; Supplier Part Number: C5204010; Resistance: 174R; Tolerance: 1%; Power: 125mW
footprint RES SMD 0805
pins: 1, 2

## RES 0805 178R 1%
designator C?, comment 178R
125mW 178R Thick Film Resistor 1% 100ppm/â„ƒ 0805 Chip Resistor - Surface Mount RoHS; Manufacturer: FOJAN; Manufacturer Part Number: FRQ0805F1780TS; Supplier: LCSC; Supplier Part Number: C7471242; Resistance: 178R; Tolerance: 1%; Power: 125mW
footprint RES SMD 0805
pins: 1, 2

## RES 0805 178R 1%_1
designator C?, comment 178R
178R 1% 125mW 0805 Thick Film Resistor; Manufacturer: FOJAN; Manufacturer Part Number: FRC0805F1780TS; Voltage Rating: 150V; Supplier: LCSC; Supplier Part Number: C5121531; Resistance: 178R; Tolerance: 1%; Power: 125mW
footprint RES SMD 0805
pins: 1, 2

## RES 0805 180k 1%
designator C?, comment 180k
180kR 1% 125mW 0805 Thick Film Resistor; Manufacturer: FOJAN; Manufacturer Part Number: FRC0805F1803TS; Voltage Rating: 150V; Supplier: LCSC; Supplier Part Number: C2907230; Resistance: 180k; Tolerance: 1%; Power: 125mW
footprint RES SMD 0805
pins: 1, 2

## RES 0805 180k 5%
designator C?, comment 180k
180kR 5% 125mW 0805 Thick Film Resistor; Manufacturer: FOJAN; Manufacturer Part Number: FRC0805J184TS; Voltage Rating: 150V; Supplier: LCSC; Supplier Part Number: C2930249; Resistance: 180k; Tolerance: 5%; Power: 125mW
footprint RES SMD 0805
pins: 1, 2

## RES 0805 180mR 1%
designator C?, comment 180mR
180mR 1% 125mW 0805 Thick Film Resistor; Manufacturer: FOJAN; Manufacturer Part Number: FRL0805FR180TS; Voltage Rating: 300V; Supplier: LCSC; Supplier Part Number: C5204042; Resistance: 180mR; Tolerance: 1%; Power: 125mW
footprint RES SMD 0805
pins: 1, 2

## RES 0805 180mR 5%
designator C?, comment 180mR
180mR 5% 125mW 0805 Thick Film Resistor; Manufacturer: FOJAN; Manufacturer Part Number: FRL0805JR180TS; Voltage Rating: 300V; Supplier: LCSC; Supplier Part Number: C2934276; Resistance: 180mR; Tolerance: 5%; Power: 125mW
footprint RES SMD 0805
pins: 1, 2

## RES 0805 180R 1%
designator C?, comment 180R
180R 1% 125mW 0805 Thick Film Resistor; Manufacturer: FOJAN; Manufacturer Part Number: FRC0805F1800TS; Voltage Rating: 150V; Supplier: LCSC; Supplier Part Number: C2933344; Resistance: 180R; Tolerance: 1%; Power: 125mW
footprint RES SMD 0805
pins: 1, 2

## RES 0805 182k 1%
designator C?, comment 182k
182kR 1% 125mW 0805 Thick Film Resistor; Manufacturer: FOJAN; Manufacturer Part Number: FRC0805F1823TS; Voltage Rating: 150V; Supplier: LCSC; Supplier Part Number: C2933347; Resistance: 182k; Tolerance: 1%; Power: 125mW
footprint RES SMD 0805
pins: 1, 2

## RES 0805 187k 1%
designator C?, comment 187k
187kR 1% 125mW 0805 Thick Film Resistor; Manufacturer: FOJAN; Manufacturer Part Number: FRC0805F1873TS; Voltage Rating: 150V; Supplier: LCSC; Supplier Part Number: C5204011; Resistance: 187k; Tolerance: 1%; Power: 125mW
footprint RES SMD 0805
pins: 1, 2

## RES 0805 191k 1%
designator C?, comment 191k
191kR 1% 125mW 0805 Thick Film Resistor; Manufacturer: FOJAN; Manufacturer Part Number: FRC0805F1913TS; Voltage Rating: 150V; Supplier: LCSC; Supplier Part Number: C3000728; Resistance: 191k; Tolerance: 1%; Power: 125mW
footprint RES SMD 0805
pins: 1, 2

## RES 0805 191R 1%
designator C?, comment 191R
191R 1% 125mW 0805 Thick Film Resistor; Manufacturer: FOJAN; Manufacturer Part Number: FRC0805F1910TS; Voltage Rating: 150V; Supplier: LCSC; Supplier Part Number: C2930176; Resistance: 191R; Tolerance: 1%; Power: 125mW
footprint RES SMD 0805
pins: 1, 2

## RES 0805 191R 1%_1
designator C?, comment 191R
125mW 191R 150V Thick Film Resistor 100ppm/â„ƒ 1% 0805 Chip Resistor - Surface Mount RoHS; Manufacturer: FOJAN; Manufacturer Part Number: FRQ0805F1910TS; Supplier: LCSC; Supplier Part Number: C48533710; Resistance: 191R; Tolerance: 1%; Voltage Rating: 150V; Power: 125mW
footprint RES SMD 0805
pins: 1, 2

## RES 0805 196R 1%
designator C?, comment 196R
196R 1% 125mW 0805 Thick Film Resistor; Manufacturer: FOJAN; Manufacturer Part Number: FRC0805F1960TS; Voltage Rating: 150V; Supplier: LCSC; Supplier Part Number: C2933350; Resistance: 196R; Tolerance: 1%; Power: 125mW
footprint RES SMD 0805
pins: 1, 2

## RES 0805 200k 0.1%
designator C?, comment 200k
125mW 200kR Thick Film Resistor 100ppm/â„ƒ 0.1% 0805 Chip Resistor - Surface Mount RoHS; Manufacturer: FOJAN; Manufacturer Part Number: FRH0805B2003TS; Supplier: LCSC; Supplier Part Number: C22375087; Resistance: 200k; Tolerance: 0.1%; Power: 125mW
footprint RES SMD 0805
pins: 1, 2

## RES 0805 200k 1%
designator C?, comment 200k
200kR 1% 125mW 0805 Thick Film Resistor; Manufacturer: FOJAN; Manufacturer Part Number: FRC0805F2003TS; Voltage Rating: 150V; Supplier: LCSC; Supplier Part Number: C2907238; Resistance: 200k; Tolerance: 1%; Power: 125mW
footprint RES SMD 0805
pins: 1, 2

## RES 0805 200k 1%_1
designator C?, comment 200k
125mW 200kR 400V Thick Film Resistor 200ppm/â„ƒ 1% 0805 Chip Resistor - Surface Mount RoHS; Manufacturer: FOJAN; Manufacturer Part Number: FRV0805F2003TS; Supplier: LCSC; Supplier Part Number: C49196873; Resistance: 200k; Tolerance: 1%; Voltage Rating: 400V; Power: 125mW
footprint RES SMD 0805
pins: 1, 2

## RES 0805 200k 5%
designator C?, comment 200k
200kR 5% 125mW 0805 Thick Film Resistor; Manufacturer: FOJAN; Manufacturer Part Number: FRC0805J204 TS; Voltage Rating: 150V; Supplier: LCSC; Supplier Part Number: C2933535; Resistance: 200k; Tolerance: 5%; Power: 125mW
footprint RES SMD 0805
pins: 1, 2

## RES 0805 200k 5%_1
designator C?, comment 200k
125mW 200kR 150V Thick Film Resistor 100ppm/â„ƒ 5% 0805 Chip Resistor - Surface Mount RoHS; Manufacturer: FOJAN; Manufacturer Part Number: FRQ0805J204 TS; Supplier: LCSC; Supplier Part Number: C18222269; Resistance: 200k; Tolerance: 5%; Voltage Rating: 150V; Power: 125mW
footprint RES SMD 0805
pins: 1, 2

## RES 0805 200mR 1%
designator C?, comment 200mR
200mR 1% 125mW 0805 Thick Film Resistor; Manufacturer: FOJAN; Manufacturer Part Number: FRL0805FR200TS; Voltage Rating: 300V; Supplier: LCSC; Supplier Part Number: C2960678; Resistance: 200mR; Tolerance: 1%; Power: 125mW
footprint RES SMD 0805
pins: 1, 2

## RES 0805 200mR 5%
designator C?, comment 200mR
200mR 5% 125mW 0805 Thick Film Resistor; Manufacturer: FOJAN; Manufacturer Part Number: FRL0805JR200TS; Voltage Rating: 300V; Supplier: LCSC; Supplier Part Number: C2934277; Resistance: 200mR; Tolerance: 5%; Power: 125mW
footprint RES SMD 0805
pins: 1, 2

## RES 0805 200R 1%
designator C?, comment 200R
200R 1% 125mW 0805 Thick Film Resistor; Manufacturer: FOJAN; Manufacturer Part Number: FRC0805F2000TS; Voltage Rating: 150V; Supplier: LCSC; Supplier Part Number: C2907239; Resistance: 200R; Tolerance: 1%; Power: 125mW
footprint RES SMD 0805
pins: 1, 2

## RES 0805 200R 1%_1
designator C?, comment 200R
125mW 200R 150V Thick Film Resistor 1% 100ppm/â„ƒ 0805 Chip Resistor - Surface Mount RoHS; Manufacturer: FOJAN; Manufacturer Part Number: FRQ0805F2000TS; Supplier: LCSC; Supplier Part Number: C7468629; Resistance: 200R; Tolerance: 1%; Voltage Rating: 150V; Power: 125mW
footprint RES SMD 0805
pins: 1, 2

## RES 0805 200R 5%
designator C?, comment 200R
200R 5% 125mW 0805 Thick Film Resistor; Manufacturer: FOJAN; Manufacturer Part Number: FRC0805J201 TS; Voltage Rating: 150V; Supplier: LCSC; Supplier Part Number: C2933534; Resistance: 200R; Tolerance: 5%; Power: 125mW
footprint RES SMD 0805
pins: 1, 2

## RES 0805 200R 5%_1
designator C?, comment 200R
125mW 200R 150V Thick Film Resistor 100ppm/â„ƒ 5% 0805 Chip Resistor - Surface Mount RoHS; Manufacturer: FOJAN; Manufacturer Part Number: FRQ0805J201 TS; Supplier: LCSC; Supplier Part Number: C49196698; Resistance: 200R; Tolerance: 5%; Voltage Rating: 150V; Power: 125mW
footprint RES SMD 0805
pins: 1, 2

## RES 0805 200R 5%_2
designator C?, comment 200R
200R 5% 125mW 0805 Thick Film Resistor; Manufacturer: FOJAN; Manufacturer Part Number: FRD0805J201 TS; Voltage Rating: 150V; Supplier: LCSC; Supplier Part Number: C2934150; Resistance: 200R; Tolerance: 5%; Power: 125mW
footprint RES SMD 0805
pins: 1, 2

## RES 0805 210R 1%
designator C?, comment 210R
210R 1% 125mW 0805 Thick Film Resistor; Manufacturer: FOJAN; Manufacturer Part Number: FRC0805F2100 TS; Voltage Rating: 150V; Supplier: LCSC; Supplier Part Number: C5357171; Resistance: 210R; Tolerance: 1%; Power: 125mW
footprint RES SMD 0805
pins: 1, 2

## RES 0805 220k 0.1%
designator C?, comment 220k
125mW 220kR 150V Thick Film Resistor 0.1% 0805 Chip Resistor - Surface Mount RoHS; Manufacturer: FOJAN; Manufacturer Part Number: FRT0805B2203TSV; Supplier: LCSC; Supplier Part Number: C52033516; Resistance: 220k; Tolerance: 0.1%; Voltage Rating: 150V; Power: 125mW
footprint RES SMD 0805
pins: 1, 2

## RES 0805 220k 1%
designator C?, comment 220k
220kR 1% 125mW 0805 Thick Film Resistor; Manufacturer: FOJAN; Manufacturer Part Number: FRC0805F2203TS; Voltage Rating: 150V; Supplier: LCSC; Supplier Part Number: C2907242; Resistance: 220k; Tolerance: 1%; Power: 125mW
footprint RES SMD 0805
pins: 1, 2

## RES 0805 220k 5%
designator C?, comment 220k
220kR 5% 125mW 0805 Thick Film Resistor; Manufacturer: FOJAN; Manufacturer Part Number: FRC0805J224 TS; Voltage Rating: 150V; Supplier: LCSC; Supplier Part Number: C2933538; Resistance: 220k; Tolerance: 5%; Power: 125mW
footprint RES SMD 0805
pins: 1, 2

## RES 0805 220mR 1%
designator C?, comment 220mR
220mR 1% 125mW 0805 Thick Film Resistor; Manufacturer: FOJAN; Manufacturer Part Number: FRL0805FR220TS; Voltage Rating: 300V; Supplier: LCSC; Supplier Part Number: C2934262; Resistance: 220mR; Tolerance: 1%; Power: 125mW
footprint RES SMD 0805
pins: 1, 2

## RES 0805 220mR 5%
designator C?, comment 220mR
220mR 5% 125mW 0805 Thick Film Resistor; Manufacturer: FOJAN; Manufacturer Part Number: FRL0805JR220TS; Voltage Rating: 300V; Supplier: LCSC; Supplier Part Number: C2934278; Resistance: 220mR; Tolerance: 5%; Power: 125mW
footprint RES SMD 0805
pins: 1, 2

## RES 0805 220R 1%
designator C?, comment 220R
220R 1% 125mW 0805 Thick Film Resistor; Manufacturer: FOJAN; Manufacturer Part Number: FRC0805F2200TS; Voltage Rating: 150V; Supplier: LCSC; Supplier Part Number: C2933369; Resistance: 220R; Tolerance: 1%; Power: 125mW
footprint RES SMD 0805
pins: 1, 2

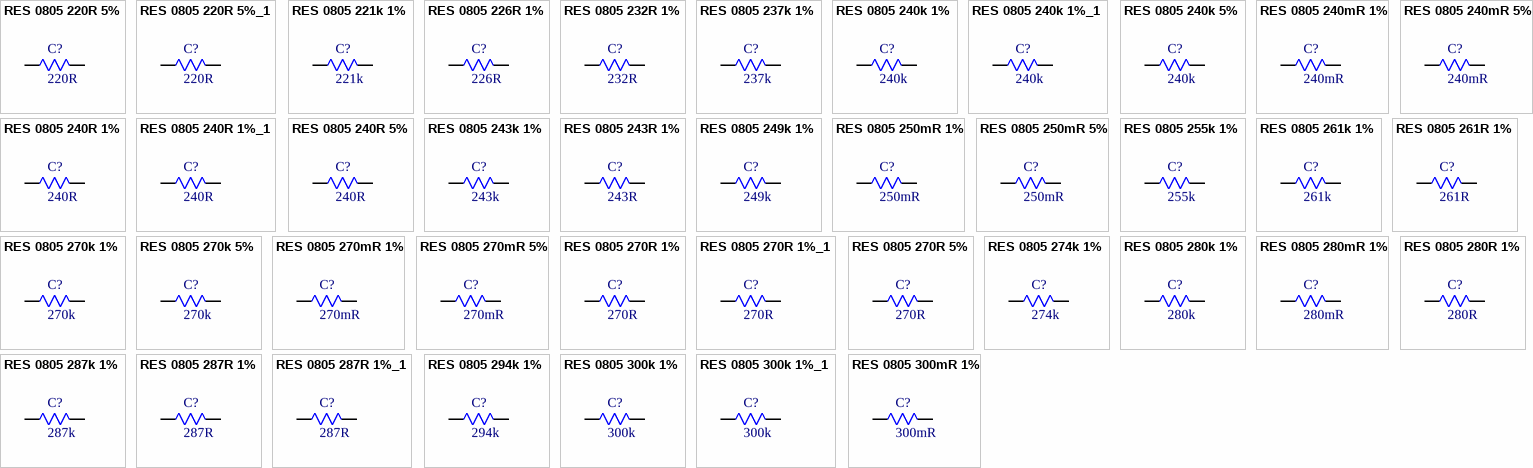
[diagram p52: symbols RES 0805 220R 5% to RES 0805 300mR 1%]

## RES 0805 220R 5%
designator C?, comment 220R
220R 5% 125mW 0805 Thick Film Resistor; Manufacturer: FOJAN; Manufacturer Part Number: FRC0805J221 TS; Voltage Rating: 150V; Supplier: LCSC; Supplier Part Number: C2933537; Resistance: 220R; Tolerance: 5%; Power: 125mW
footprint RES SMD 0805
pins: 1, 2

## RES 0805 220R 5%_1
designator C?, comment 220R
250mW 220R 150V Thick Film Resistor 5% 0805 Chip Resistor - Surface Mount RoHS; Manufacturer: FOJAN; Manufacturer Part Number: FRP0805J221 TS; Supplier: LCSC; Supplier Part Number: C52033500; Resistance: 220R; Tolerance: 5%; Voltage Rating: 150V; Power: 250mW
footprint RES SMD 0805
pins: 1, 2

## RES 0805 221k 1%
designator C?, comment 221k
221kR 1% 125mW 0805 Thick Film Resistor; Manufacturer: FOJAN; Manufacturer Part Number: FRC0805F2213TS; Voltage Rating: 150V; Supplier: LCSC; Supplier Part Number: C5713300; Resistance: 221k; Tolerance: 1%; Power: 125mW
footprint RES SMD 0805
pins: 1, 2